# Altium schematic symbol library CntrlPoints.SchLib: 2 symbols
Pins are listed as number, name and electrical type; pins without a type are passive.

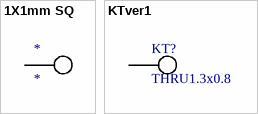
[diagram p0: symbols 1X1mm SQ to KTver1]

## 1X1mm SQ
designator *
footprint 1x1 mm SQ
pins: 1

## KTver1
designator KT?, comment THRU1.3x0.8
footprint THRU1.3x0.8
pins: 1